# Altium integrated library Аналоговые-mm.IntLib: 36 symbols
Pins are listed as number, name and electrical type; pins without a type are passive.

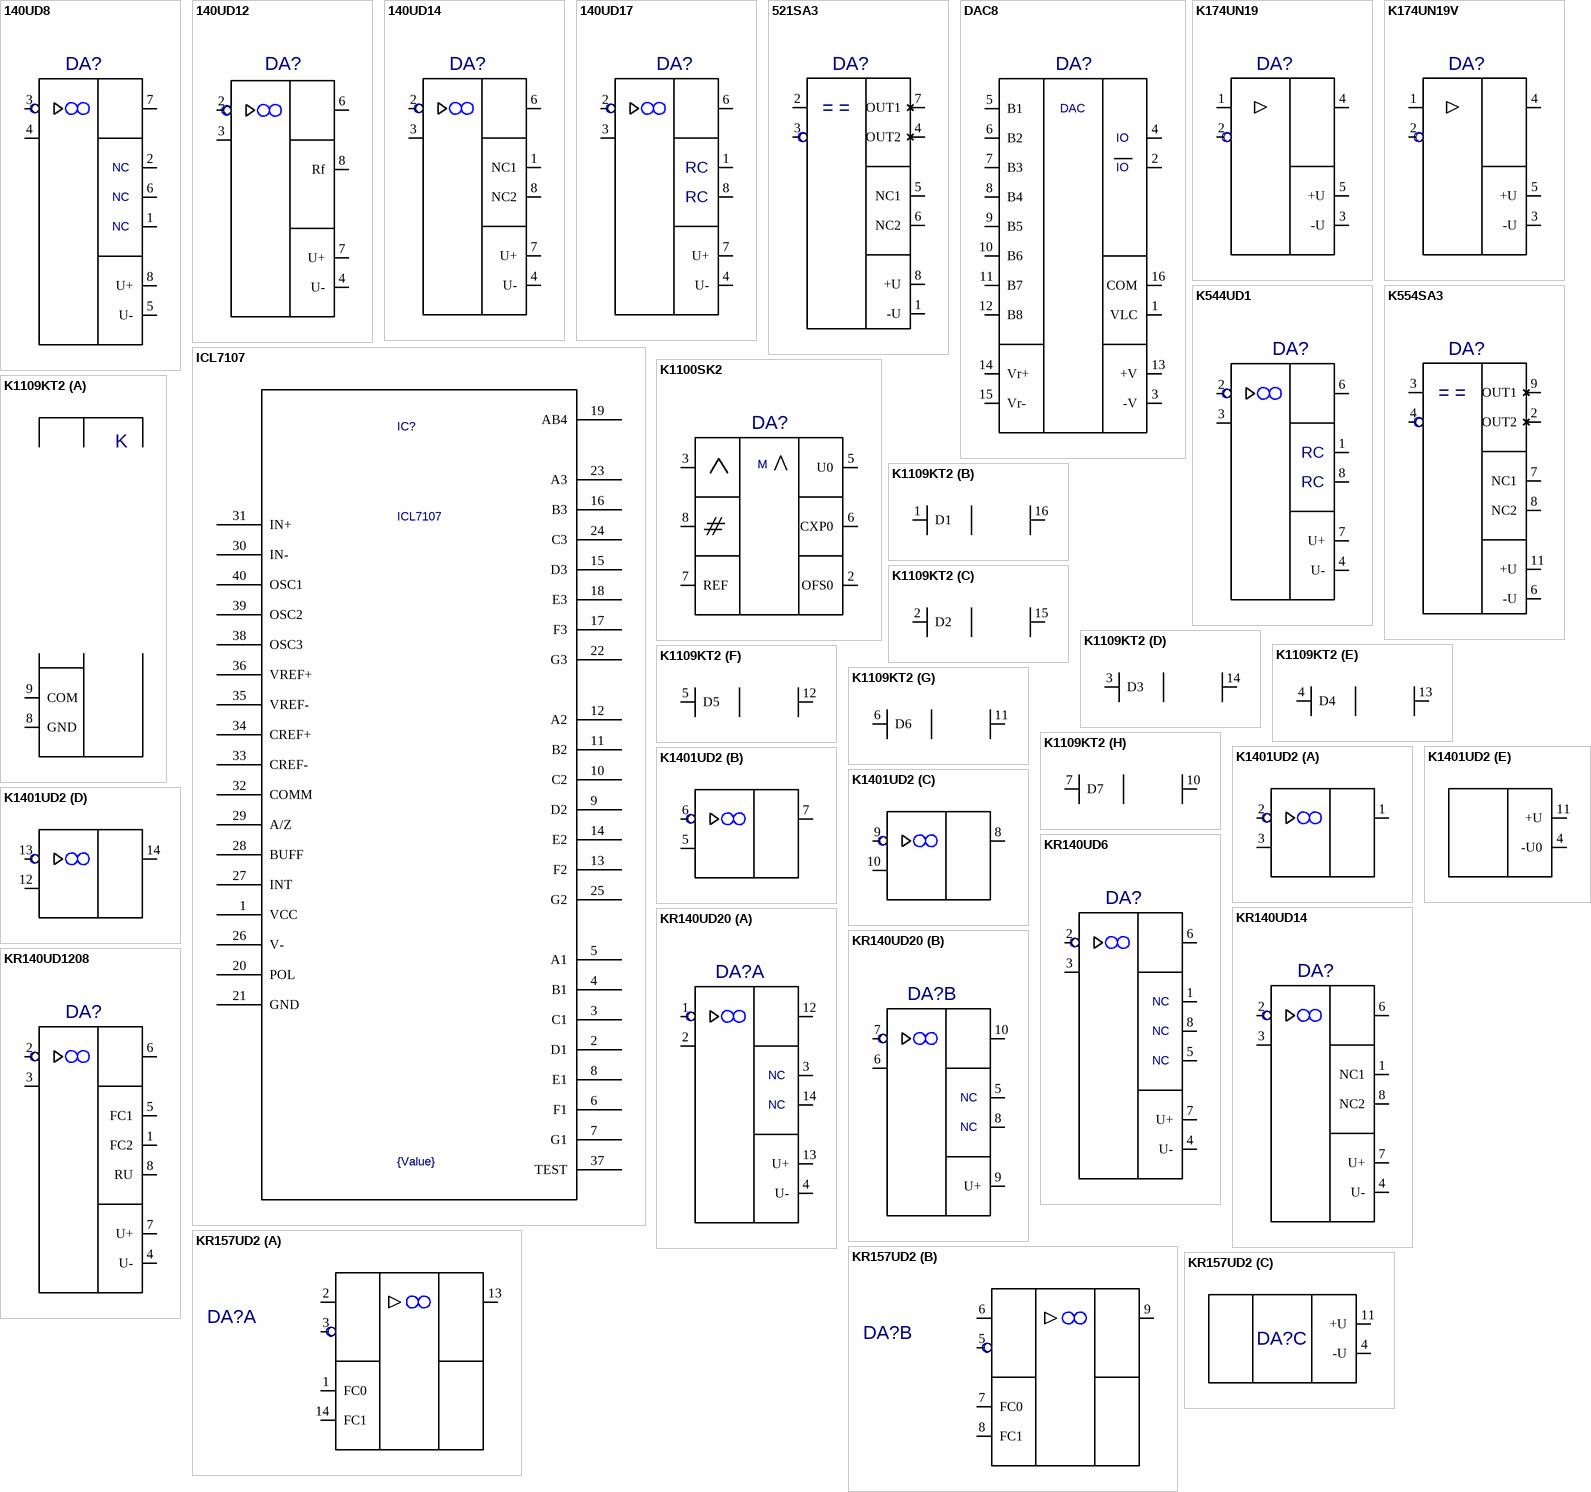
[diagram p0: symbols 140UD8 to KR157UD2]

## 140UD8
designator DA?  (value not drawn)
Value: *
footprint 302-8-2
pins: 1 NC3, 2 NC1, 3 IN1, 4 IN2, 5 U-, 6 NC2, 7 AN0, 8 U+
text: NC

## 140UD12
designator DA?  (value not drawn)
Value: *
footprint 302-8-2
pins: 1 hidden, 2 IN1, 3 IN2, 4 U-, 5 hidden, 6 AN0, 7 U+, 8 Rf

## 140UD14
designator DA?  (value not drawn)
Value: *
footprint 302-8-2
pins: 1 NC1, 2 IN1, 3 IN2, 4 U-, 5 hidden, 6 AN0, 7 U+, 8 NC2

## 140UD17
designator DA?  (value not drawn)
Value: *
footprint 302-8-1
pins: 1 NC1, 2 IN1, 3 IN2, 4 U-, 5 hidden, 6 AN0, 7 U+, 8 NC2
text: RC

## 521SA3
designator DA?  (value not drawn)
Value: *
footprint 302-8-2
pins: 1 -U, 2 A0, 3 A1, 4 OUT2, 5 NC1, 6 NC2, 7 OUT1, 8 +U

## DAC8
designator DA?  (value not drawn)
Value: *
footprint DIP16
pins: 1 VLC, 2 I2, 3 -V, 4 I1, 5 B1, 6 B2, 7 B3, 8 B4, 9 B5, 10 B6, 11 B7, 12 B8, 13 +V, 14 Vr+, 15 Vr-, 16 COM
text: DAC; IO

## ICL7107
designator IC?  value {Value}
footprint DIP40
pins: 1 VCC (power), 2 D1, 3 C1, 4 B1, 5 A1, 6 F1, 7 G1, 8 E1, 9 D2, 10 C2, 11 B2, 12 A2, 13 F2, 14 E2, 15 D3, 16 B3, 17 F3, 18 E3, 19 AB4, 20 POL, 21 GND (power), 22 G3, 23 A3, 24 C3, 25 G2, 26 V-, 27 INT, 28 BUFF, 29 A/Z, 30 IN-, 31 IN+, 32 COMM, 33 CREF-, 34 CREF+, 35 VREF-, 36 VREF+, 37 TEST, 38 OSC3, 39 OSC2, 40 OSC1

## K174UN19
designator DA?  (value not drawn)
Value: *
footprint K174UN19R
pins: 1 A0, 2 A1, 3 -U, 4 OUT1, 5 +U, 6 hidden

## K174UN19V
designator DA?  (value not drawn)
Value: *
footprint K174UN19V
pins: 1 A0, 2 A1, 3 -U, 4 OUT1, 5 +U

## K544UD1
designator DA?  (value not drawn)
Value: *
footprint 302-8-1
pins: 1 NC1, 2 IN1, 3 IN2, 4 U-, 5 hidden, 6 AN0, 7 U+, 8 NC2
text: RC

## K554SA3
designator DA?  (value not drawn)
Value: *
footprint DIP14
pins: 1 hidden, 2 OUT2, 3 A0, 4 A1, 5 hidden, 6 -U, 7 NC1, 8 NC2, 9 OUT1, 10 hidden, 11 +U, 12 hidden, 13 hidden, 14 hidden

## K1100SK2
designator DA?  (value not drawn)
Value: *
footprint DIP8
pins: 1 +15B (power) hidden, 2 OFS0, 3 AN, 4 -15B (power) hidden, 5 U0, 6 CXP0, 7 REF, 8 IN0
text: M

## K1109KT2
designator DA?  (value not drawn)
Value: *
footprint DIP16
part A pins: 8 GND, 9 COM
part B pins: 1 D1, 16 Q1
part C pins: 2 D2, 15 Q2
part D pins: 3 D3, 14 Q3
part E pins: 4 D4, 13 Q4
part F pins: 5 D5, 12 Q5
part G pins: 6 D6, 11 Q6
part H pins: 7 D7, 10 Q7
part A text: K

## K1401UD2
designator DA?  (value not drawn)
Value: *
footprint DIP14
part A pins: 1 AN0, 2 IN1, 3 IN2
part B pins: 5 IN2, 6 IN1, 7 AN0
part C pins: 8 AN0, 9 IN1, 10 IN2
part D pins: 12 IN2, 13 IN1, 14 AN0
part E pins: 4 -U0, 11 +U

## KR140UD6
designator DA?  (value not drawn)
Value: *
footprint DIP8
pins: 1 NC1, 2 IN1, 3 IN2, 4 U-, 5 NC3, 6 AN0, 7 U+, 8 NC2
text: NC

## KR140UD14
designator DA?  (value not drawn)
Value: *
footprint DIP8
pins: 1 NC1, 2 IN1, 3 IN2, 4 U-, 5 hidden, 6 AN0, 7 U+, 8 NC2

## KR140UD20
designator DA?  (value not drawn)
Value: *
footprint DIP14
pins on every part: 11 hidden
part A pins: 1 IN1, 2 IN2, 3 NC1, 4 U-, 12 AN0, 13 U+, 14 NC2
part B pins: 5 NC1, 6 IN2, 7 IN1, 8 NC2, 9 U+, 10 AN0
part A text: NC
part B text: NC

## KR140UD1208
designator DA?  (value not drawn)
Value: *
footprint DIP8
pins: 1 FC2, 2 IN1, 3 IN2, 4 U-, 5 FC1, 6 AN0, 7 U+, 8 RU

## KR157UD2
designator DA?  (value not drawn)
Value: *
footprint DIP14
pins on every part: 10 hidden, 12 hidden
part A pins: 1 FC0, 2 ANI1, 3 ANI0, 13 ANOUT0, 14 FC1
part B pins: 5 ANI0, 6 ANI1, 7 FC0, 8 FC1, 9 ANOUT0
part C pins: 4 -U (power), 11 +U (power)

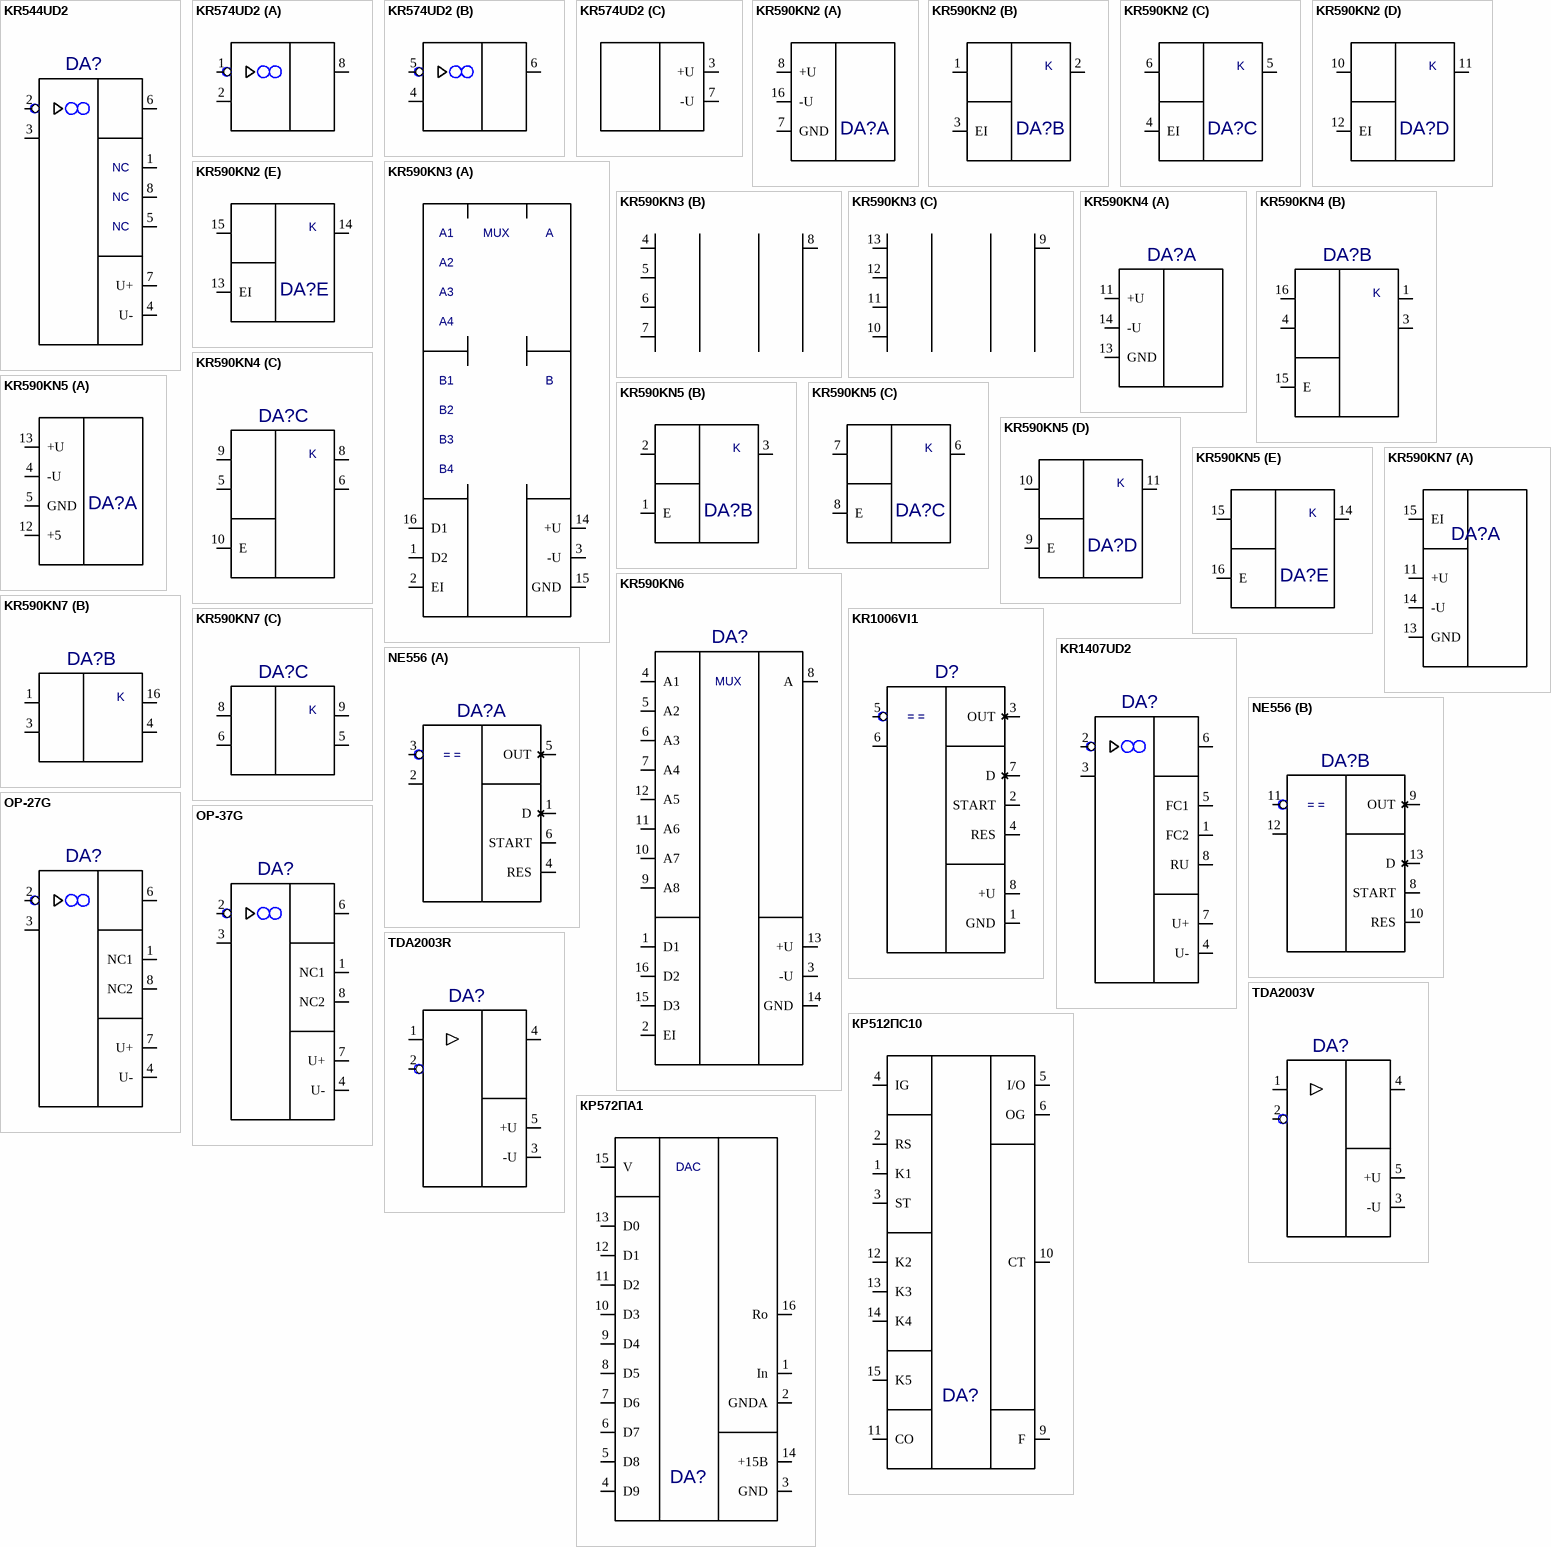
[diagram p1: symbols KR544UD2 to КР572ПА1]

## KR544UD2
designator DA?  (value not drawn)
Value: *
footprint DIP8
pins: 1 NC1, 2 IN1, 3 IN2, 4 U-, 5 NC3, 6 AN0, 7 U+, 8 NC2
text: NC

## KR574UD2
designator DA?  (value not drawn)
Value: *
footprint DIP8
part A pins: 1 IN1, 2 IN2, 8 AN0
part B pins: 4 IN2, 5 IN1, 6 AN0
part C pins: 3 +U, 7 -U

## KR590KN2
designator DA?  (value not drawn)
Value: *
footprint DIP16
pins on every part: 9 hidden
part A pins: 7 GND, 8 +U, 16 -U
part B pins: 1 AN1, 2 AN2, 3 EI
part C pins: 4 EI, 5 AN2, 6 AN1
part D pins: 10 AN1, 11 AN2, 12 EI
part E pins: 13 EI, 14 AN2, 15 AN1
part B text: K
part C text: K
part D text: K
part E text: K

## KR590KN3
designator DA?  (value not drawn)
Value: *
footprint DIP16
part A pins: 1 D2, 2 EI, 3 -U, 14 +U, 15 GND, 16 D1
part B pins: 4 A0, 5 A1, 6 A2, 7 A3, 8 A
part C pins: 9 A, 10 A3, 11 A2, 12 A1, 13 A0
part A text: MUX; A4; B1; B; B2; B3; B4

## KR590KN4
designator DA?  (value not drawn)
Value: *
footprint DIP16
pins on every part: 2 hidden, 7 hidden, 12 hidden
part A pins: 11 +U, 13 GND, 14 -U
part B pins: 1 AN2, 3 AN4, 4 AN3, 15 E, 16 AN1
part C pins: 5 AN3, 6 AN4, 8 AN2, 9 AN1, 10 E
part B text: K
part C text: K

## KR590KN5
designator DA?  (value not drawn)
Value: *
footprint DIP16
part A pins: 4 -U, 5 GND, 12 +5, 13 +U
part B pins: 1 E, 2 AN1, 3 AN2
part C pins: 6 AN2, 7 AN1, 8 E
part D pins: 9 E, 10 AN1, 11 AN2
part E pins: 14 AN2, 15 AN1, 16 E
part B text: K
part C text: K
part D text: K
part E text: K

## KR590KN6
designator DA?  (value not drawn)
Value: *
footprint DIP16
pins: 1 D1, 2 EI, 3 -U, 4 A1, 5 A2, 6 A3, 7 A4, 8 A, 9 A8, 10 A7, 11 A6, 12 A5, 13 +U, 14 GND, 15 D3, 16 D2
text: MUX

## KR590KN7
designator DA?  (value not drawn)
Value: *
footprint DIP16
pins on every part: 2 hidden, 7 hidden, 10 hidden, 12 hidden
part A pins: 11 +U, 13 GND, 14 -U, 15 EI
part B pins: 1 AN1, 3 AN3, 4 AN4, 16 AN2
part C pins: 5 AN4, 6 AN3, 8 AN1, 9 AN2
part B text: K
part C text: K

## KR1006VI1
designator D?  (value not drawn)
Value: *
footprint DIP8
pins: 1 GND, 2 START, 3 OUT, 4 RES, 5 IN1, 6 IN2, 7 D, 8 +U

## KR1407UD2
designator DA?  (value not drawn)
Value: *
footprint DIP8
pins: 1 FC2, 2 IN1, 3 IN2, 4 U-, 5 FC1, 6 AN0, 7 U+, 8 RU

## NE556
designator DA?  (value not drawn)
Value: *
footprint DIP14
pins on every part: 7 GND (power) hidden, 14 VCC (power) hidden
part A pins: 1 D, 2 IN2, 3 IN1, 4 RES, 5 OUT, 6 START
part B pins: 8 START, 9 OUT, 10 RES, 11 IN1, 12 IN2, 13 D

## OP-27G
designator DA?  (value not drawn)
Value: *
footprint DIP8
pins: 1 NC1, 2 IN1, 3 IN2, 4 U-, 5 hidden, 6 AN0, 7 U+, 8 NC2

## OP-37G
designator DA?  (value not drawn)
Value: *
footprint DIP8
pins: 1 NC1, 2 IN1, 3 IN2, 4 U-, 5 hidden, 6 AN0, 7 U+, 8 NC2

## TDA2003R
designator DA?  (value not drawn)
Value: *
footprint K174UN19R
pins: 1 A0, 2 A1, 3 -U, 4 OUT1, 5 +U

## TDA2003V
designator DA?  (value not drawn)
Value: *
footprint K174UN19V
pins: 1 A0, 2 A1, 3 -U, 4 OUT1, 5 +U

## КР512ПС10
designator DA?  (value not drawn)
Value: *
footprint DIP16
pins: 1 K1, 2 RS, 3 ST, 4 IG, 5 I/O, 6 OG, 8 GND (power) hidden, 9 F, 10 CT, 11 CO, 12 K2, 13 K3, 14 K4, 15 K5, 16 VCC (power) hidden

## КР572ПА1
designator DA?  (value not drawn)
Value: *
footprint DIP16
pins: 1 In, 2 GNDA, 3 GND, 4 D9, 5 D8, 6 D7, 7 D6, 8 D5, 9 D4, 10 D3, 11 D2, 12 D1, 13 D0, 14 +15B, 15 V, 16 Ro
text: DAC